# Altium integrated library TI Data Converters Analog to Digital Converter.IntLib: 2198 symbols (part 81 of 164)
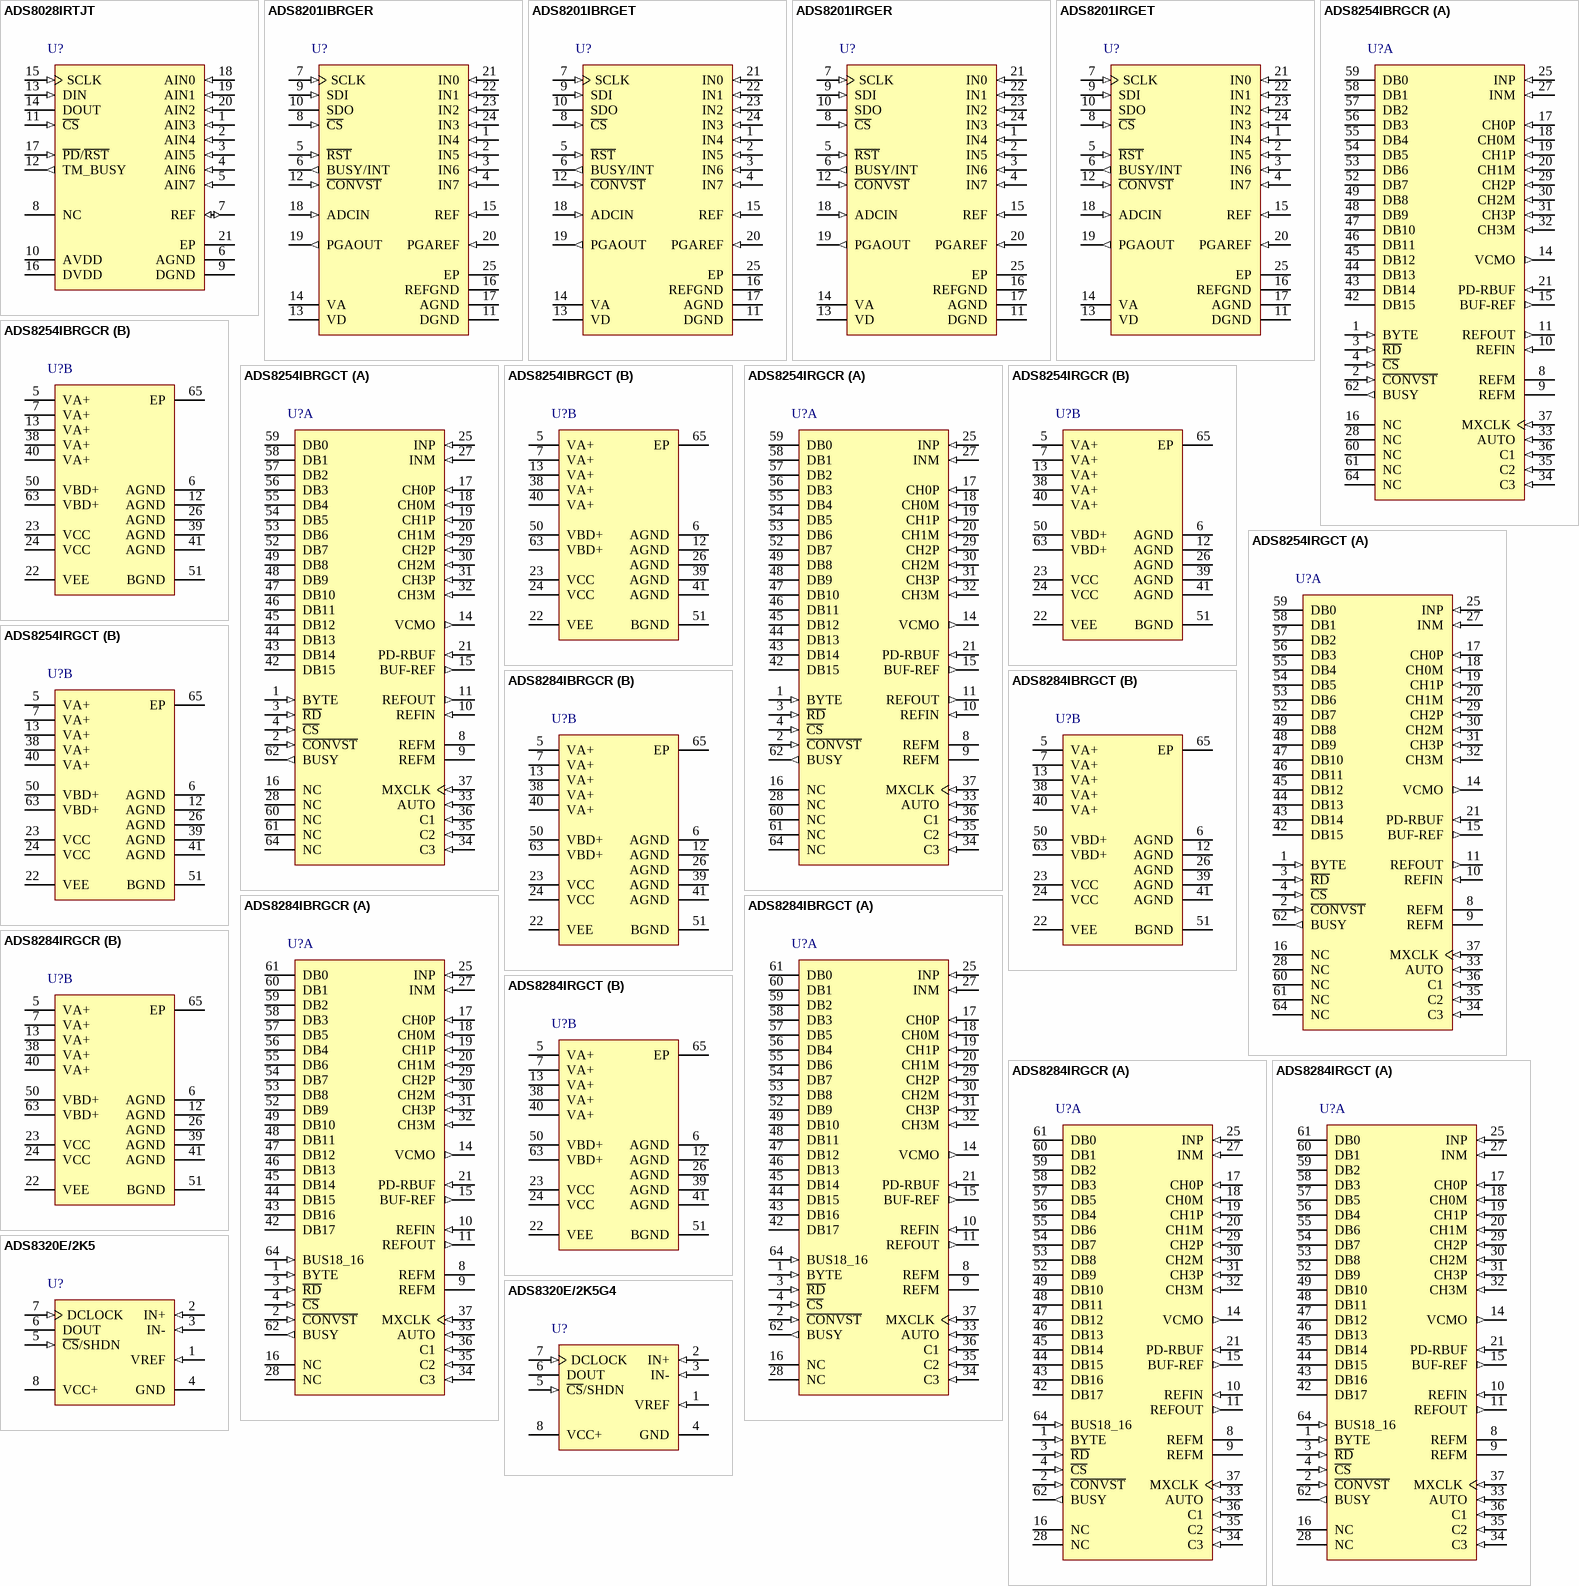
[diagram p206: symbols ADS8028IRTJT to ADS8320E/2K5G4]

## ADS8284IRGCT
designator U?
18-Bit, 1 MSPS, 4 Channel, Pseudo Bipolar, Differential ADC with Onboard ADC Driver OPA, -40 to 85 degC, 64-pin QFN (RGC64), Green (RoHS & no Sb/Br); Manufacturer: Texas Instruments; PartNumber: ADS8284IRGCT; # Input Channels: 4; Analog Voltage AV/DD(Max)(V): 5.25; Analog Voltage AV/DD(Min)(V): 4.75; Architecture: SAR; Digital Supply(Min)(V): 2.7; INL(Max)(+/-LSB): 4.5; Interface: Parallel CMOS; Resolution(Bits): 18; Sample Rate (max)(SPS): 1M; SFDR(dB): 121; SINAD(dB): 98.3; SNR(dB): 98.4; SubFamily: Precision ADC (<=10MSPS); DatasheetVersion: SLAS628; PackageVersion: 4204106/F, 11/2011; PackageReference: RGC64-7250X7250TP; PackageDescription: 64-Pin Plastic Quad Flatpack No-Lead, Body 9 x 9 mm, Pitch 0.5 mm; Supplier 1: Digi-Key; Supplier Part Number 1: DDC112U-ND; Digital Supply(Max)(V): 5.25; Eco-Plan: Green (RoHS & no Sb/Br); Mounting Technology: Surface Mount; ComponentLink1Description: Manufacturer URL; ComponentLink1URL: http://www.ti.com/; ComponentLink2Description: Datasheet; ComponentLink2URL: http://www.ti.com/general/docs/lit/getliterature.tsp?genericPartNumber=ADS8284&fileType=pdf; ComponentLink3Description: Package Specification; ComponentLink3URL: http://www.ti.com/litv/pdf/mpqf125e
footprint TI-RGC64-7250X7250TP_V (QFN, 64-Leads, Body 9x9mm, Pitch 0.5mm, Thermal Pad 7.25x7.25mm, TI Recommended)
part A pins: 1 BYTE (in) "Byte Select Input. Used for 8-bit bus reading. Refer to ADC DATA BUS description above.", 2 ~{CONVST} (in) "Convert start. This input is active low and can act independent of the C\S\ input.", 3 ~{RD} (in) "Synchronization pulse for the parallel output.", 4 ~{CS} (in) "Chip select.", 8 REFM (power) "Reference ground.", 9 REFM (power) "Reference ground.", 10 REFIN (in) "Reference Input. Add 0.1-uF decoupling capacitor between REFIN and REFM.", 11 REFOUT (out) "Reference Output. Add 1-uF capacitor between the REFOUT pin and REFM pin when internal reference is used.", 14 VCMO (out) "This pin outputs REFIN/2 and can be used to set common-mode voltage of differential analog inputs.", 15 BUF-REF (out) "Buffered reference output. Useful to level shift bipolar signals using external resistors.", 16 NC "No connection.", 17 CH0P (in) "Non-inverting analog input for differential multiplexer channel number 0. Device performance is optimized for 50-ohm source impedance at this input.", 18 CH0M (in) "Inverting analog input for differential multiplexer channel number 0. Device performance is optimized for 50-ohm source impedance at this input.", 19 CH1P (in) "Non-inverting analog input for differential multiplexer channel number 1. Device performance is optimized for 50-ohm source impedance at this input.", 20 CH1M (in) "Inverting analog input for differential multiplexer channel number 1. Device performance is optimized for 50-ohm source impedance at this input.", 21 PD-RBUF (in) "High on this pin powers down the reference buffer (BUF-REF).", 25 INP (in) "ADC Non inverting input., connect 1-nF capacitor across INP and INM", 27 INM (in) "ADC Inverting input, connect 1-nF capacitor across INP and INM", 28 NC "No connection.", 29 CH2P (in) "Non-inverting analog input for differential multiplexer channel number 2. Device performance is optimized for 50-ohm source impedance at this input.", 30 CH2M (in) "Inverting analog input for differential multiplexer channel number 2. Device performance is optimized for 50-ohm source impedance at this input.", 31 CH3P (in) "Non-inverting analog input for differential multiplexer channel number 3. Device performance is optimized for 50 ohm source impedance at this input.", 32 CH3M (in) "Inverting analog input for differential multiplexer channel number 3. Device performance is optimized for 50-ohm source impedance at this input.", 33 AUTO (in) "High level on this pin selects auto mode for multiplexer scanning. Low level selects manual mode of multiplexer scanning", 34 C3 (in) "In auto mode (AUTO = 1) multiplexer channel selection is reset to CH0 on rising edge of MXCLK while C3 = 1. The pin is do not care in manual mode.", 35 C2 (in) "Acts as multiplexer address bit when AUTO = 0 (manual mode). In auto mode (AUTO = 1) C2 and C1 select the last multiplexer channel (channel count) in the auto scan sequence.", 36 C1 (in) "Acts as multiplexer address LSB when AUTO = 0 (manual mode). In auto mode (AUTO = 1) C2 and C1 select the last multiplexer channel (channel count) in the auto scan sequence.", 37 MXCLK (in) "Multiplexer channel is selected on rising edge of MXCLK irrespective of whether it is auto or manual mode. Device BUSY output can be connected to MXCLK so that device selects next channel at the end of every sample.", 42 DB17 (hiz), 43 DB16 (hiz), 44 DB15 (hiz), 45 DB14 (hiz), 46 DB13 (hiz), 47 DB12 (hiz), 48 DB11 (hiz), 49 DB10 (hiz), 52 DB9 (hiz), 53 DB8 (hiz), 54 DB7 (hiz), 55 DB6 (hiz), 56 DB4 (hiz), 57 DB5 (hiz), 58 DB3 (hiz), 59 DB2 (hiz), 60 DB1 (hiz), 61 DB0 (hiz), 62 BUSY (out) "Status output. This pin is held high when device is converting.", 64 BUS18_16 (in) "Bus size select input. Used for selecting 18-bit or 16-bit wide bus transfer. Refer to ADC DATA BUS description above."
part B pins: 5 VA+ (power) "Analog power supply.", 6 AGND (power) "Analog ground.", 7 VA+ (power) "Analog power supply.", 12 AGND (power) "Analog ground.", 13 VA+ (power) "Analog power supply.", 22 VEE (power) "Negative supply for OPA (OP1, OP2)", 23 VCC (power) "Positive supply for OPA (OP1, OP2, BUF-REF)", 24 VCC (power) "Positive supply for OPA (OP1, OP2, BUF-REF)", 26 AGND (power) "Analog ground.", 38 VA+ (power) "Analog power supply.", 39 AGND (power) "Analog ground.", 40 VA+ (power) "Analog power supply.", 41 AGND (power) "Analog ground.", 50 VBD+ (power) "Digital power supply for ADC bus.", 51 BGND (power) "Digital ground for ADC bus interface digital supply.", 63 VBD+ (power) "Digital power supply for ADC bus.", 65 EP

## ADS8320E/2K5
designator U?
16-Bit, High-Speed, 2.7 to 5 V Micro Power Sampling ADC, -40 to 85 degC, 8-pin SOP (DGK8), Green (RoHS & no Sb/Br); Manufacturer: Texas Instruments; PartNumber: ADS8320E/2K5; # Input Channels: 1; Analog Voltage AV/DD(Max)(V): 5.25; Analog Voltage AV/DD(Min)(V): 2.7; Architecture: SAR; INL(Max)(+/-LSB): 8; Interface: Serial SPI; Resolution(Bits): 16; Sample Rate (max)(SPS): 100k; SFDR(dB): 84; SINAD(dB): 82; SNR(dB): 90; SubFamily: Precision ADC (<=10MSPS); DatasheetVersion: SBAS108D; PackageVersion: 4073329/E, 05/2006; PackageReference: DGK8; PackageDescription: 8-Pin Thin Small Outline, Body 3 x 3 mm, Pitch 0.65 mm; Supplier 1: Digi-Key; Supplier Part Number 1: DDC112U/1K-ND; Digital Supply(Max)(V): 5.25; Digital Supply(Min)(V): 2.7; Eco-Plan: Green (RoHS & no Sb/Br); Mounting Technology: Surface Mount; Code_JEDEC: MO-187; ComponentLink1Description: Manufacturer URL; ComponentLink1URL: http://www.ti.com/; ComponentLink2Description: Datasheet; ComponentLink2URL: http://www.ti.com/general/docs/lit/getliterature.tsp?genericPartNumber=ADS8320&fileType=pdf; ComponentLink3Description: Package Specification; ComponentLink3URL: http://www.ti.com/litv/pdf/mpds028d
footprint TI-DGK8_N (SOP, 8-Leads, Body 3x3mm, Pitch 0.65mm, IPC Medium Density)
footprint TI-DGK8_L (SOP, 8-Leads, Body 3x3mm, Pitch 0.65mm, IPC High Density)
footprint TI-DGK8_M (SOP, 8-Leads, Body 3x3mm, Pitch 0.65mm, IPC Low Density)
pins: 1 VREF (in) "Reference Input.", 2 IN+ (in) "Noninverting Input.", 3 IN- (in) "Inverting Input. Connect to ground or to remote ground sense point.", 4 GND (power) "Ground.", 5 ~{CS}/SHDN (in) "Chip Select when LOW, Shutdown Mode when HIGH.", 6 DOUT (hiz) "The serial output data word is comprised of 16 bits of data. In operation the data is valid on the falling edge of DCLOCK. The second clock pulse after the falling edge of C\S\ enables the serial output. After one null bit (See Datasheet)", 7 DCLOCK (in) "Data Clock synchronizes the serial data transfer and determines conversion speed.", 8 VCC+ (power) "Power Supply."

## ADS8320E/2K5G4
designator U?
16-Bit, High-Speed, 2.7 to 5 V Micro Power Sampling ADC, -40 to 85 degC, 8-pin SOP (DGK8), Green (RoHS & no Sb/Br); Manufacturer: Texas Instruments; PartNumber: ADS8320E/2K5G4; # Input Channels: 1; Analog Voltage AV/DD(Max)(V): 5.25; Analog Voltage AV/DD(Min)(V): 2.7; Architecture: SAR; INL(Max)(+/-LSB): 8; Interface: Serial SPI; Resolution(Bits): 16; Sample Rate (max)(SPS): 100k; SFDR(dB): 84; SINAD(dB): 82; SNR(dB): 90; SubFamily: Precision ADC (<=10MSPS); DatasheetVersion: SBAS108D; PackageVersion: 4073329/E, 05/2006; PackageReference: DGK8; PackageDescription: 8-Pin Thin Small Outline, Body 3 x 3 mm, Pitch 0.65 mm; Supplier 1: Digi-Key; Supplier Part Number 1: DDC112U/1KG4-ND; Digital Supply(Max)(V): 5.25; Digital Supply(Min)(V): 2.7; Eco-Plan: Green (RoHS & no Sb/Br); Mounting Technology: Surface Mount; Code_JEDEC: MO-187; ComponentLink1Description: Manufacturer URL; ComponentLink1URL: http://www.ti.com/; ComponentLink2Description: Datasheet; ComponentLink2URL: http://www.ti.com/general/docs/lit/getliterature.tsp?genericPartNumber=ADS8320&fileType=pdf; ComponentLink3Description: Package Specification; ComponentLink3URL: http://www.ti.com/litv/pdf/mpds028d
footprint TI-DGK8_N (SOP, 8-Leads, Body 3x3mm, Pitch 0.65mm, IPC Medium Density)
footprint TI-DGK8_L (SOP, 8-Leads, Body 3x3mm, Pitch 0.65mm, IPC High Density)
footprint TI-DGK8_M (SOP, 8-Leads, Body 3x3mm, Pitch 0.65mm, IPC Low Density)
pins: 1 VREF (in) "Reference Input.", 2 IN+ (in) "Noninverting Input.", 3 IN- (in) "Inverting Input. Connect to ground or to remote ground sense point.", 4 GND (power) "Ground.", 5 ~{CS}/SHDN (in) "Chip Select when LOW, Shutdown Mode when HIGH.", 6 DOUT (hiz) "The serial output data word is comprised of 16 bits of data. In operation the data is valid on the falling edge of DCLOCK. The second clock pulse after the falling edge of C\S\ enables the serial output. After one null bit (See Datasheet)", 7 DCLOCK (in) "Data Clock synchronizes the serial data transfer and determines conversion speed.", 8 VCC+ (power) "Power Supply."

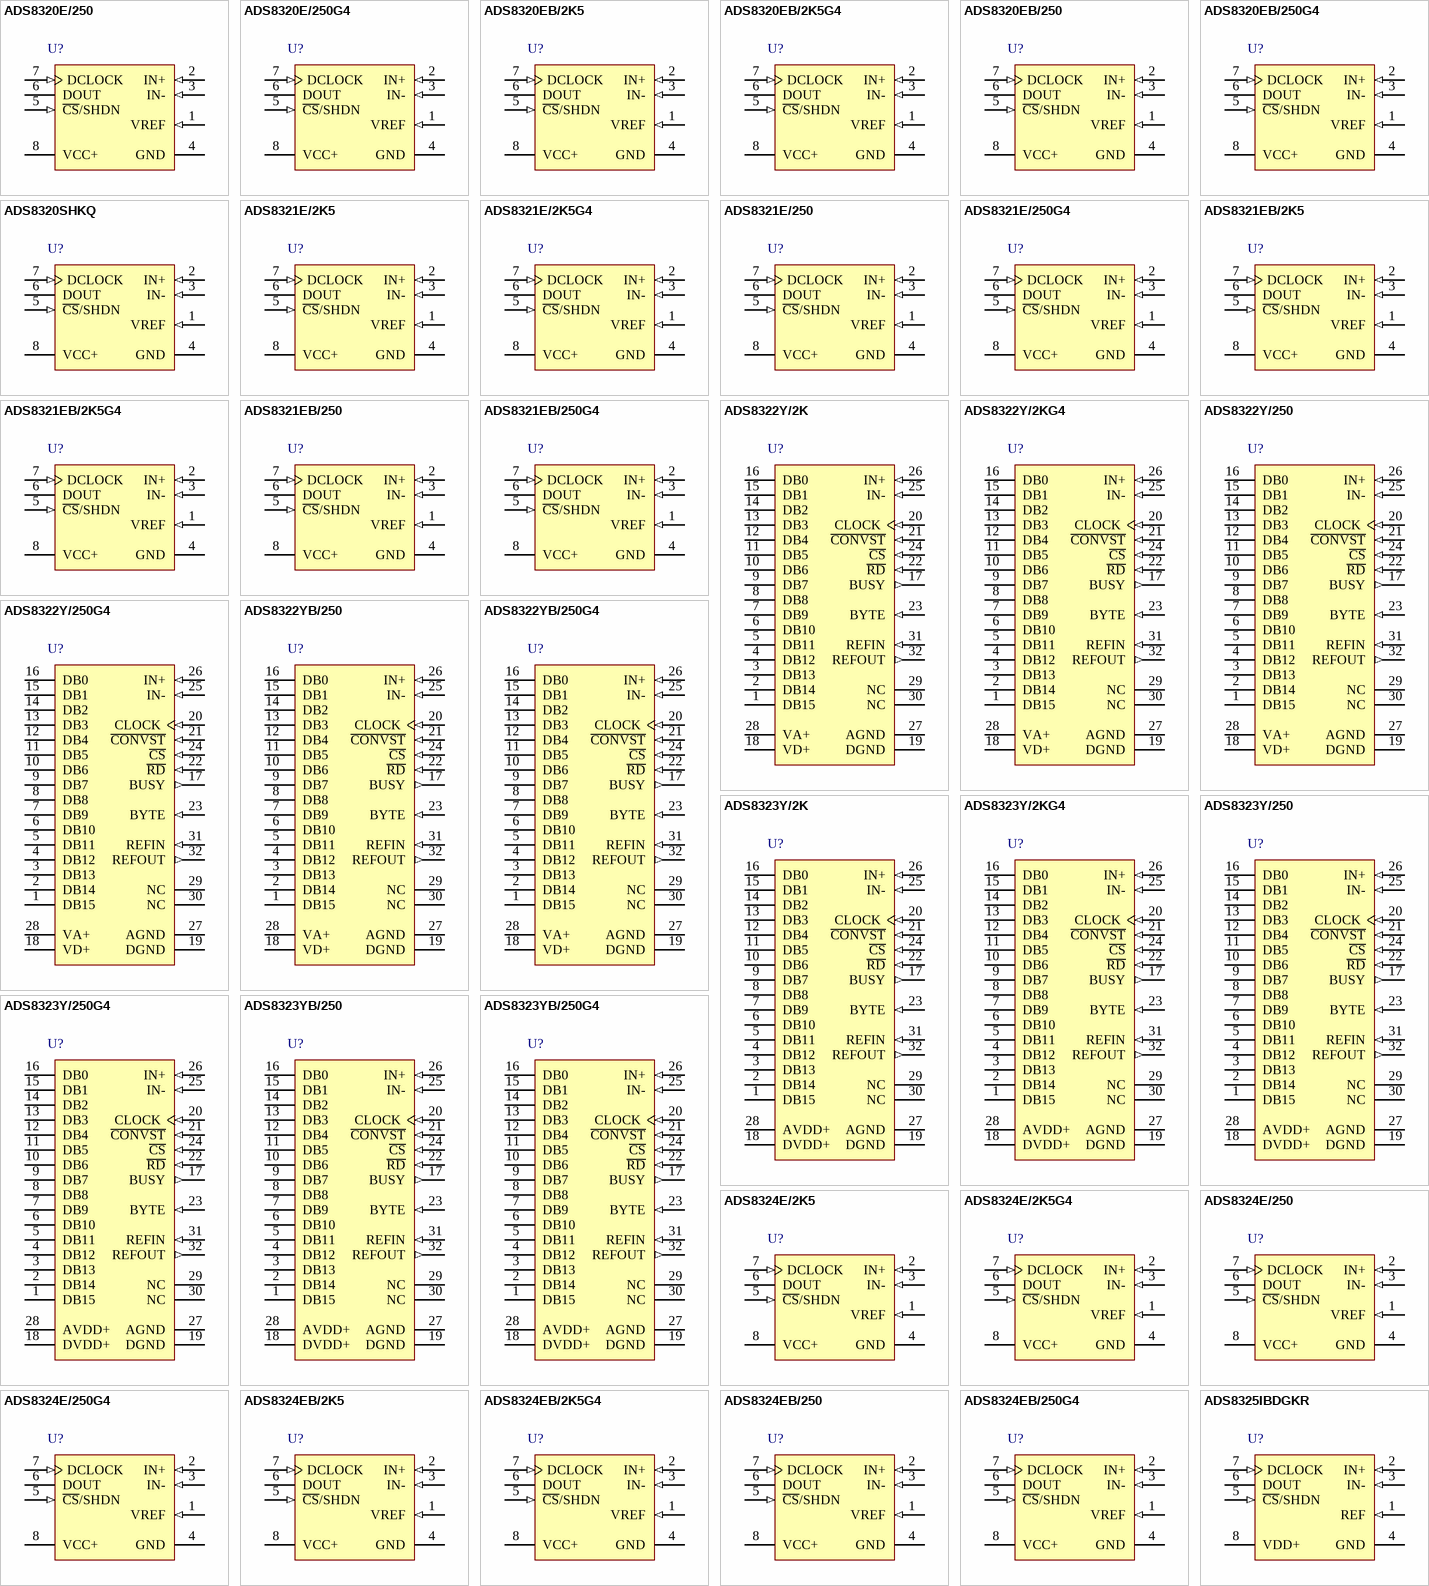
[diagram p73: symbols ADS8320E/250 to ADS8325IBDGKR]

## ADS8320E/250
designator U?
16-Bit, High-Speed, 2.7 to 5 V Micro Power Sampling ADC, -40 to 85 degC, 8-pin SOP (DGK8), Green (RoHS & no Sb/Br); Manufacturer: Texas Instruments; PartNumber: ADS8320E/250; # Input Channels: 1; Analog Voltage AV/DD(Max)(V): 5.25; Analog Voltage AV/DD(Min)(V): 2.7; Architecture: SAR; INL(Max)(+/-LSB): 8; Interface: Serial SPI; Resolution(Bits): 16; Sample Rate (max)(SPS): 100k; SFDR(dB): 84; SINAD(dB): 82; SNR(dB): 90; SubFamily: Precision ADC (<=10MSPS); DatasheetVersion: SBAS108D; PackageVersion: 4073329/E, 05/2006; PackageReference: DGK8; PackageDescription: 8-Pin Thin Small Outline, Body 3 x 3 mm, Pitch 0.65 mm; Supplier 1: Digi-Key; Supplier Part Number 1: DDC112UG4-ND; Digital Supply(Max)(V): 5.25; Digital Supply(Min)(V): 2.7; Eco-Plan: Green (RoHS & no Sb/Br); Mounting Technology: Surface Mount; Code_JEDEC: MO-187; ComponentLink1Description: Manufacturer URL; ComponentLink1URL: http://www.ti.com/; ComponentLink2Description: Datasheet; ComponentLink2URL: http://www.ti.com/general/docs/lit/getliterature.tsp?genericPartNumber=ADS8320&fileType=pdf; ComponentLink3Description: Package Specification; ComponentLink3URL: http://www.ti.com/litv/pdf/mpds028d
footprint TI-DGK8_N (SOP, 8-Leads, Body 3x3mm, Pitch 0.65mm, IPC Medium Density)
footprint TI-DGK8_L (SOP, 8-Leads, Body 3x3mm, Pitch 0.65mm, IPC High Density)
footprint TI-DGK8_M (SOP, 8-Leads, Body 3x3mm, Pitch 0.65mm, IPC Low Density)
pins: 1 VREF (in) "Reference Input.", 2 IN+ (in) "Noninverting Input.", 3 IN- (in) "Inverting Input. Connect to ground or to remote ground sense point.", 4 GND (power) "Ground.", 5 ~{CS}/SHDN (in) "Chip Select when LOW, Shutdown Mode when HIGH.", 6 DOUT (hiz) "The serial output data word is comprised of 16 bits of data. In operation the data is valid on the falling edge of DCLOCK. The second clock pulse after the falling edge of C\S\ enables the serial output. After one null bit (See Datasheet)", 7 DCLOCK (in) "Data Clock synchronizes the serial data transfer and determines conversion speed.", 8 VCC+ (power) "Power Supply."

## ADS8320E/250G4
designator U?
16-Bit, High-Speed, 2.7 to 5 V Micro Power Sampling ADC, -40 to 85 degC, 8-pin SOP (DGK8), Green (RoHS & no Sb/Br); Manufacturer: Texas Instruments; PartNumber: ADS8320E/250G4; # Input Channels: 1; Analog Voltage AV/DD(Max)(V): 5.25; Analog Voltage AV/DD(Min)(V): 2.7; Architecture: SAR; INL(Max)(+/-LSB): 8; Interface: Serial SPI; Resolution(Bits): 16; Sample Rate (max)(SPS): 100k; SFDR(dB): 84; SINAD(dB): 82; SNR(dB): 90; SubFamily: Precision ADC (<=10MSPS); DatasheetVersion: SBAS108D; PackageVersion: 4073329/E, 05/2006; PackageReference: DGK8; PackageDescription: 8-Pin Thin Small Outline, Body 3 x 3 mm, Pitch 0.65 mm; Supplier 1: Digi-Key; Supplier Part Number 1: DDC112UK-ND; Digital Supply(Max)(V): 5.25; Digital Supply(Min)(V): 2.7; Eco-Plan: Green (RoHS & no Sb/Br); Mounting Technology: Surface Mount; Code_JEDEC: MO-187; ComponentLink1Description: Manufacturer URL; ComponentLink1URL: http://www.ti.com/; ComponentLink2Description: Datasheet; ComponentLink2URL: http://www.ti.com/general/docs/lit/getliterature.tsp?genericPartNumber=ADS8320&fileType=pdf; ComponentLink3Description: Package Specification; ComponentLink3URL: http://www.ti.com/litv/pdf/mpds028d
footprint TI-DGK8_N (SOP, 8-Leads, Body 3x3mm, Pitch 0.65mm, IPC Medium Density)
footprint TI-DGK8_L (SOP, 8-Leads, Body 3x3mm, Pitch 0.65mm, IPC High Density)
footprint TI-DGK8_M (SOP, 8-Leads, Body 3x3mm, Pitch 0.65mm, IPC Low Density)
pins: 1 VREF (in) "Reference Input.", 2 IN+ (in) "Noninverting Input.", 3 IN- (in) "Inverting Input. Connect to ground or to remote ground sense point.", 4 GND (power) "Ground.", 5 ~{CS}/SHDN (in) "Chip Select when LOW, Shutdown Mode when HIGH.", 6 DOUT (hiz) "The serial output data word is comprised of 16 bits of data. In operation the data is valid on the falling edge of DCLOCK. The second clock pulse after the falling edge of C\S\ enables the serial output. After one null bit (See Datasheet)", 7 DCLOCK (in) "Data Clock synchronizes the serial data transfer and determines conversion speed.", 8 VCC+ (power) "Power Supply."

## ADS8320EB/2K5
designator U?
16-Bit, High-Speed, 2.7 to 5 V Micro Power Sampling ADC, -40 to 85 degC, 8-pin SOP (DGK8), Green (RoHS & no Sb/Br); Manufacturer: Texas Instruments; PartNumber: ADS8320EB/2K5; # Input Channels: 1; Analog Voltage AV/DD(Max)(V): 5.25; Analog Voltage AV/DD(Min)(V): 2.7; Architecture: SAR; INL(Max)(+/-LSB): 8; Interface: Serial SPI; Resolution(Bits): 16; Sample Rate (max)(SPS): 100k; SFDR(dB): 86; SINAD(dB): 84; SNR(dB): 92; SubFamily: Precision ADC (<=10MSPS); DatasheetVersion: SBAS108D; PackageVersion: 4073329/E, 05/2006; PackageReference: DGK8; PackageDescription: 8-Pin Thin Small Outline, Body 3 x 3 mm, Pitch 0.65 mm; Supplier 1: Digi-Key; Supplier Part Number 1: DDC112UKG4-ND; Digital Supply(Max)(V): 5.25; Digital Supply(Min)(V): 2.7; Eco-Plan: Green (RoHS & no Sb/Br); Mounting Technology: Surface Mount; Code_JEDEC: MO-187; ComponentLink1Description: Manufacturer URL; ComponentLink1URL: http://www.ti.com/; ComponentLink2Description: Datasheet; ComponentLink2URL: http://www.ti.com/general/docs/lit/getliterature.tsp?genericPartNumber=ADS8320&fileType=pdf; ComponentLink3Description: Package Specification; ComponentLink3URL: http://www.ti.com/litv/pdf/mpds028d
footprint TI-DGK8_N (SOP, 8-Leads, Body 3x3mm, Pitch 0.65mm, IPC Medium Density)
footprint TI-DGK8_L (SOP, 8-Leads, Body 3x3mm, Pitch 0.65mm, IPC High Density)
footprint TI-DGK8_M (SOP, 8-Leads, Body 3x3mm, Pitch 0.65mm, IPC Low Density)
pins: 1 VREF (in) "Reference Input.", 2 IN+ (in) "Noninverting Input.", 3 IN- (in) "Inverting Input. Connect to ground or to remote ground sense point.", 4 GND (power) "Ground.", 5 ~{CS}/SHDN (in) "Chip Select when LOW, Shutdown Mode when HIGH.", 6 DOUT (hiz) "The serial output data word is comprised of 16 bits of data. In operation the data is valid on the falling edge of DCLOCK. The second clock pulse after the falling edge of C\S\ enables the serial output. After one null bit (See Datasheet)", 7 DCLOCK (in) "Data Clock synchronizes the serial data transfer and determines conversion speed.", 8 VCC+ (power) "Power Supply."

## ADS8320EB/2K5G4
designator U?
16-Bit, High-Speed, 2.7 to 5 V Micro Power Sampling ADC, -40 to 85 degC, 8-pin SOP (DGK8), Green (RoHS & no Sb/Br); Manufacturer: Texas Instruments; PartNumber: ADS8320EB/2K5G4; # Input Channels: 1; Analog Voltage AV/DD(Max)(V): 5.25; Analog Voltage AV/DD(Min)(V): 2.7; Architecture: SAR; INL(Max)(+/-LSB): 8; Interface: Serial SPI; Resolution(Bits): 16; Sample Rate (max)(SPS): 100k; SFDR(dB): 86; SINAD(dB): 84; SNR(dB): 92; SubFamily: Precision ADC (<=10MSPS); DatasheetVersion: SBAS108D; PackageVersion: 4073329/E, 05/2006; PackageReference: DGK8; PackageDescription: 8-Pin Thin Small Outline, Body 3 x 3 mm, Pitch 0.65 mm; Supplier 1: Digi-Key; Supplier Part Number 1: 296-16747-2-ND; Digital Supply(Max)(V): 5.25; Digital Supply(Min)(V): 2.7; Eco-Plan: Green (RoHS & no Sb/Br); Mounting Technology: Surface Mount; Code_JEDEC: MO-187; ComponentLink1Description: Manufacturer URL; ComponentLink1URL: http://www.ti.com/; ComponentLink2Description: Datasheet; ComponentLink2URL: http://www.ti.com/general/docs/lit/getliterature.tsp?genericPartNumber=ADS8320&fileType=pdf; ComponentLink3Description: Package Specification; ComponentLink3URL: http://www.ti.com/litv/pdf/mpds028d
footprint TI-DGK8_N (SOP, 8-Leads, Body 3x3mm, Pitch 0.65mm, IPC Medium Density)
footprint TI-DGK8_L (SOP, 8-Leads, Body 3x3mm, Pitch 0.65mm, IPC High Density)
footprint TI-DGK8_M (SOP, 8-Leads, Body 3x3mm, Pitch 0.65mm, IPC Low Density)
pins: 1 VREF (in) "Reference Input.", 2 IN+ (in) "Noninverting Input.", 3 IN- (in) "Inverting Input. Connect to ground or to remote ground sense point.", 4 GND (power) "Ground.", 5 ~{CS}/SHDN (in) "Chip Select when LOW, Shutdown Mode when HIGH.", 6 DOUT (hiz) "The serial output data word is comprised of 16 bits of data. In operation the data is valid on the falling edge of DCLOCK. The second clock pulse after the falling edge of C\S\ enables the serial output. After one null bit (See Datasheet)", 7 DCLOCK (in) "Data Clock synchronizes the serial data transfer and determines conversion speed.", 8 VCC+ (power) "Power Supply."

## ADS8320EB/250
designator U?
16-Bit, High-Speed, 2.7 to 5 V Micro Power Sampling ADC, -40 to 85 degC, 8-pin SOP (DGK8), Green (RoHS & no Sb/Br); Manufacturer: Texas Instruments; PartNumber: ADS8320EB/250; # Input Channels: 1; Analog Voltage AV/DD(Max)(V): 5.25; Analog Voltage AV/DD(Min)(V): 2.7; Architecture: SAR; INL(Max)(+/-LSB): 8; Interface: Serial SPI; Resolution(Bits): 16; Sample Rate (max)(SPS): 100k; SFDR(dB): 86; SINAD(dB): 84; SNR(dB): 92; SubFamily: Precision ADC (<=10MSPS); DatasheetVersion: SBAS108D; PackageVersion: 4073329/E, 05/2006; PackageReference: DGK8; PackageDescription: 8-Pin Thin Small Outline, Body 3 x 3 mm, Pitch 0.65 mm; Supplier 1: Digi-Key; Supplier Part Number 1: DDC112Y/250G4-ND; Digital Supply(Max)(V): 5.25; Digital Supply(Min)(V): 2.7; Eco-Plan: Green (RoHS & no Sb/Br); Mounting Technology: Surface Mount; Code_JEDEC: MO-187; ComponentLink1Description: Manufacturer URL; ComponentLink1URL: http://www.ti.com/; ComponentLink2Description: Datasheet; ComponentLink2URL: http://www.ti.com/general/docs/lit/getliterature.tsp?genericPartNumber=ADS8320&fileType=pdf; ComponentLink3Description: Package Specification; ComponentLink3URL: http://www.ti.com/litv/pdf/mpds028d
footprint TI-DGK8_N (SOP, 8-Leads, Body 3x3mm, Pitch 0.65mm, IPC Medium Density)
footprint TI-DGK8_L (SOP, 8-Leads, Body 3x3mm, Pitch 0.65mm, IPC High Density)
footprint TI-DGK8_M (SOP, 8-Leads, Body 3x3mm, Pitch 0.65mm, IPC Low Density)
pins: 1 VREF (in) "Reference Input.", 2 IN+ (in) "Noninverting Input.", 3 IN- (in) "Inverting Input. Connect to ground or to remote ground sense point.", 4 GND (power) "Ground.", 5 ~{CS}/SHDN (in) "Chip Select when LOW, Shutdown Mode when HIGH.", 6 DOUT (hiz) "The serial output data word is comprised of 16 bits of data. In operation the data is valid on the falling edge of DCLOCK. The second clock pulse after the falling edge of C\S\ enables the serial output. After one null bit (See Datasheet)", 7 DCLOCK (in) "Data Clock synchronizes the serial data transfer and determines conversion speed.", 8 VCC+ (power) "Power Supply."

## ADS8320EB/250G4
designator U?
16-Bit, High-Speed, 2.7 to 5 V Micro Power Sampling ADC, -40 to 85 degC, 8-pin SOP (DGK8), Green (RoHS & no Sb/Br); Manufacturer: Texas Instruments; PartNumber: ADS8320EB/250G4; # Input Channels: 1; Analog Voltage AV/DD(Max)(V): 5.25; Analog Voltage AV/DD(Min)(V): 2.7; Architecture: SAR; INL(Max)(+/-LSB): 8; Interface: Serial SPI; Resolution(Bits): 16; Sample Rate (max)(SPS): 100k; SFDR(dB): 86; SINAD(dB): 84; SNR(dB): 92; SubFamily: Precision ADC (<=10MSPS); DatasheetVersion: SBAS108D; PackageVersion: 4073329/E, 05/2006; PackageReference: DGK8; PackageDescription: 8-Pin Thin Small Outline, Body 3 x 3 mm, Pitch 0.65 mm; Supplier 1: Digi-Key; Supplier Part Number 1: DDC112Y/2K-ND; Digital Supply(Max)(V): 5.25; Digital Supply(Min)(V): 2.7; Eco-Plan: Green (RoHS & no Sb/Br); Mounting Technology: Surface Mount; Code_JEDEC: MO-187; ComponentLink1Description: Manufacturer URL; ComponentLink1URL: http://www.ti.com/; ComponentLink2Description: Datasheet; ComponentLink2URL: http://www.ti.com/general/docs/lit/getliterature.tsp?genericPartNumber=ADS8320&fileType=pdf; ComponentLink3Description: Package Specification; ComponentLink3URL: http://www.ti.com/litv/pdf/mpds028d
footprint TI-DGK8_N (SOP, 8-Leads, Body 3x3mm, Pitch 0.65mm, IPC Medium Density)
footprint TI-DGK8_L (SOP, 8-Leads, Body 3x3mm, Pitch 0.65mm, IPC High Density)
footprint TI-DGK8_M (SOP, 8-Leads, Body 3x3mm, Pitch 0.65mm, IPC Low Density)
pins: 1 VREF (in) "Reference Input.", 2 IN+ (in) "Noninverting Input.", 3 IN- (in) "Inverting Input. Connect to ground or to remote ground sense point.", 4 GND (power) "Ground.", 5 ~{CS}/SHDN (in) "Chip Select when LOW, Shutdown Mode when HIGH.", 6 DOUT (hiz) "The serial output data word is comprised of 16 bits of data. In operation the data is valid on the falling edge of DCLOCK. The second clock pulse after the falling edge of C\S\ enables the serial output. After one null bit (See Datasheet)", 7 DCLOCK (in) "Data Clock synchronizes the serial data transfer and determines conversion speed.", 8 VCC+ (power) "Power Supply."

## ADS8320SHKQ
designator U?
High Temperature 16-Bit, High-Speed, 2.7 to 5 V Micro Power Sampling ADC, -55 to 125 degC, 8-pin CFP (HKQ8); Manufacturer: Texas Instruments; PartNumber: ADS8320SHKQ; # Input Channels: 1; Analog Voltage AV/DD(Max)(V): 5.25; Analog Voltage AV/DD(Min)(V): 2.7; Architecture: SAR; Interface: Serial SPI; Resolution(Bits): 16; Sample Rate (max)(SPS): 100k; SFDR(dB): 83; SINAD(dB): 81; SNR(dB): 88; SubFamily: Precision ADC (<=10MSPS); DatasheetVersion: SBAS521B; PackageVersion: 4212003/B, 05/2012; PackageReference: HKQ8; PackageDescription: 8-Pin Ceramic, Metal Flat Pack, Body 6.9 x 5.65 mm, Pitch 1.27 mm; Supplier 1: Digi-Key; Supplier Part Number 1: DDC112Y/2KG4-ND; Digital Supply(Max)(V): 5.25; Digital Supply(Min)(V): 2.7; Mounting Technology: Surface Mount; ComponentLink1Description: Manufacturer URL; ComponentLink1URL: http://www.ti.com/; ComponentLink2Description: Datasheet; ComponentLink2URL: http://www.ti.com/general/docs/lit/getliterature.tsp?genericPartNumber=ADS8320-HT&fileType=pdf; ComponentLink3Description: Package Specification; ComponentLink3URL: http://www.ti.com/litv/pdf/mcdf011a
footprint TI-HKQ8_N (CFP, 8-Leads, Body 6.9x5.65mm, Pitch 1.27mm, IPC Medium Density)
footprint TI-HKQ8_L (CFP, 8-Leads, Body 6.9x5.65mm, Pitch 1.27mm, IPC High Density)
footprint TI-HKQ8_M (CFP, 8-Leads, Body 6.9x5.65mm, Pitch 1.27mm, IPC Low Density)
pins: 1 VREF (in) "Reference input", 2 IN+ (in) "Noninverting input", 3 IN- (in) "Inverting input. Connect to ground or to remote ground sense point.", 4 GND (power) "Ground", 5 ~{CS}/SHDN (in) "Chip select when LOW, shutdown mode when HIGH.", 6 DOUT (hiz) "The serial output data word is comprised of 16 bits of data. In operation the data is valid on the falling edge of DCLOCK. The second clock pulse after the falling edge of CS enables the serial output. After one null bit the (See Datasheet)", 7 DCLOCK (in) "Data clock synchronizes the serial data transfer and determines conversion speed.", 8 VCC+ (power) "Power supply"

## ADS8321E/2K5
designator U?
16-Bit, High Speed, MicroPower Sampling ADC, -40 to 85 degC, 8-pin SOP (DGK8), Green (RoHS & no Sb/Br); Manufacturer: Texas Instruments; PartNumber: ADS8321E/2K5; # Input Channels: 1; Analog Voltage AV/DD(Max)(V): 5.25; Analog Voltage AV/DD(Min)(V): 4.75; Architecture: SAR; INL(Max)(+/-LSB): 8; Interface: Serial SPI; Resolution(Bits): 16; Sample Rate (max)(SPS): 100k; SFDR(dB): 84; SINAD(dB): 82; SNR(dB): 85; SubFamily: Precision ADC (<=10MSPS); DatasheetVersion: SBAS123B; PackageVersion: 4073329/E, 05/2006; PackageReference: DGK8; PackageDescription: 8-Pin Thin Small Outline, Body 3 x 3 mm, Pitch 0.65 mm; Supplier 1: Digi-Key; Supplier Part Number 1: DDC112YK/250-ND; Digital Supply(Max)(V): 5.25; Digital Supply(Min)(V): 4.75; Eco-Plan: Green (RoHS & no Sb/Br); Mounting Technology: Surface Mount; Code_JEDEC: MO-187; ComponentLink1Description: Manufacturer URL; ComponentLink1URL: http://www.ti.com/; ComponentLink2Description: Datasheet; ComponentLink2URL: http://www.ti.com/general/docs/lit/getliterature.tsp?genericPartNumber=ADS8321&fileType=pdf; ComponentLink3Description: Package Specification; ComponentLink3URL: http://www.ti.com/litv/pdf/mpds028d
footprint TI-DGK8_N (SOP, 8-Leads, Body 3x3mm, Pitch 0.65mm, IPC Medium Density)
footprint TI-DGK8_L (SOP, 8-Leads, Body 3x3mm, Pitch 0.65mm, IPC High Density)
footprint TI-DGK8_M (SOP, 8-Leads, Body 3x3mm, Pitch 0.65mm, IPC Low Density)
pins: 1 VREF (in) "Reference Input", 2 IN+ (in) "Non Inverting Input", 3 IN- (in) "Inverting Input", 4 GND (power) "Ground", 5 ~{CS}/SHDN (in) "Chip Select when LOW, Shutdown Mode when HIGH.", 6 DOUT (hiz) "The serial output data word is comprised of 16 bits of data. In operation the data is valid on the falling edge of DCLOCK. The second clock pulse after the falling edge of C\S\ enables the serial output. After one null bit, (See Datasheet)", 7 DCLOCK (in) "Data Clock synchronizes the serial data transfer and determines conversion speed.", 8 VCC+ (power) "Power Supply."

## ADS8321E/2K5G4
designator U?
16-Bit, High Speed, MicroPower Sampling ADC, -40 to 85 degC, 8-pin SOP (DGK8), Green (RoHS & no Sb/Br); Manufacturer: Texas Instruments; PartNumber: ADS8321E/2K5G4; # Input Channels: 1; Analog Voltage AV/DD(Max)(V): 5.25; Analog Voltage AV/DD(Min)(V): 4.75; Architecture: SAR; INL(Max)(+/-LSB): 8; Interface: Serial SPI; Resolution(Bits): 16; Sample Rate (max)(SPS): 100k; SFDR(dB): 84; SINAD(dB): 82; SNR(dB): 85; SubFamily: Precision ADC (<=10MSPS); DatasheetVersion: SBAS123B; PackageVersion: 4073329/E, 05/2006; PackageReference: DGK8; PackageDescription: 8-Pin Thin Small Outline, Body 3 x 3 mm, Pitch 0.65 mm; Supplier 1: Digi-Key; Supplier Part Number 1: DDC112YK/250G4-ND; Digital Supply(Max)(V): 5.25; Digital Supply(Min)(V): 4.75; Eco-Plan: Green (RoHS & no Sb/Br); Mounting Technology: Surface Mount; Code_JEDEC: MO-187; ComponentLink1Description: Manufacturer URL; ComponentLink1URL: http://www.ti.com/; ComponentLink2Description: Datasheet; ComponentLink2URL: http://www.ti.com/general/docs/lit/getliterature.tsp?genericPartNumber=ADS8321&fileType=pdf; ComponentLink3Description: Package Specification; ComponentLink3URL: http://www.ti.com/litv/pdf/mpds028d
footprint TI-DGK8_N (SOP, 8-Leads, Body 3x3mm, Pitch 0.65mm, IPC Medium Density)
footprint TI-DGK8_L (SOP, 8-Leads, Body 3x3mm, Pitch 0.65mm, IPC High Density)
footprint TI-DGK8_M (SOP, 8-Leads, Body 3x3mm, Pitch 0.65mm, IPC Low Density)
pins: 1 VREF (in) "Reference Input", 2 IN+ (in) "Non Inverting Input", 3 IN- (in) "Inverting Input", 4 GND (power) "Ground", 5 ~{CS}/SHDN (in) "Chip Select when LOW, Shutdown Mode when HIGH.", 6 DOUT (hiz) "The serial output data word is comprised of 16 bits of data. In operation the data is valid on the falling edge of DCLOCK. The second clock pulse after the falling edge of C\S\ enables the serial output. After one null bit, (See Datasheet)", 7 DCLOCK (in) "Data Clock synchronizes the serial data transfer and determines conversion speed.", 8 VCC+ (power) "Power Supply."

## ADS8321E/250
designator U?
16-Bit, High Speed, MicroPower Sampling ADC, -40 to 85 degC, 8-pin SOP (DGK8), Green (RoHS & no Sb/Br); Manufacturer: Texas Instruments; PartNumber: ADS8321E/250; # Input Channels: 1; Analog Voltage AV/DD(Max)(V): 5.25; Analog Voltage AV/DD(Min)(V): 4.75; Architecture: SAR; INL(Max)(+/-LSB): 8; Interface: Serial SPI; Resolution(Bits): 16; Sample Rate (max)(SPS): 100k; SFDR(dB): 84; SINAD(dB): 82; SNR(dB): 85; SubFamily: Precision ADC (<=10MSPS); DatasheetVersion: SBAS123B; PackageVersion: 4073329/E, 05/2006; PackageReference: DGK8; PackageDescription: 8-Pin Thin Small Outline, Body 3 x 3 mm, Pitch 0.65 mm; Supplier 1: Digi-Key; Supplier Part Number 1: ADS7841E-ND; Digital Supply(Max)(V): 5.25; Digital Supply(Min)(V): 4.75; Eco-Plan: Green (RoHS & no Sb/Br); Mounting Technology: Surface Mount; Code_JEDEC: MO-187; ComponentLink1Description: Manufacturer URL; ComponentLink1URL: http://www.ti.com/; ComponentLink2Description: Datasheet; ComponentLink2URL: http://www.ti.com/general/docs/lit/getliterature.tsp?genericPartNumber=ADS8321&fileType=pdf; ComponentLink3Description: Package Specification; ComponentLink3URL: http://www.ti.com/litv/pdf/mpds028d
footprint TI-DGK8_N (SOP, 8-Leads, Body 3x3mm, Pitch 0.65mm, IPC Medium Density)
footprint TI-DGK8_L (SOP, 8-Leads, Body 3x3mm, Pitch 0.65mm, IPC High Density)
footprint TI-DGK8_M (SOP, 8-Leads, Body 3x3mm, Pitch 0.65mm, IPC Low Density)
pins: 1 VREF (in) "Reference Input", 2 IN+ (in) "Non Inverting Input", 3 IN- (in) "Inverting Input", 4 GND (power) "Ground", 5 ~{CS}/SHDN (in) "Chip Select when LOW, Shutdown Mode when HIGH.", 6 DOUT (hiz) "The serial output data word is comprised of 16 bits of data. In operation the data is valid on the falling edge of DCLOCK. The second clock pulse after the falling edge of C\S\ enables the serial output. After one null bit, (See Datasheet)", 7 DCLOCK (in) "Data Clock synchronizes the serial data transfer and determines conversion speed.", 8 VCC+ (power) "Power Supply."

## ADS8321E/250G4
designator U?
16-Bit, High Speed, MicroPower Sampling ADC, -40 to 85 degC, 8-pin SOP (DGK8), Green (RoHS & no Sb/Br); Manufacturer: Texas Instruments; PartNumber: ADS8321E/250G4; # Input Channels: 1; Analog Voltage AV/DD(Max)(V): 5.25; Analog Voltage AV/DD(Min)(V): 4.75; Architecture: SAR; INL(Max)(+/-LSB): 8; Interface: Serial SPI; Resolution(Bits): 16; Sample Rate (max)(SPS): 100k; SFDR(dB): 84; SINAD(dB): 82; SNR(dB): 85; SubFamily: Precision ADC (<=10MSPS); DatasheetVersion: SBAS123B; PackageVersion: 4073329/E, 05/2006; PackageReference: DGK8; PackageDescription: 8-Pin Thin Small Outline, Body 3 x 3 mm, Pitch 0.65 mm; Supplier 1: Digi-Key; Supplier Part Number 1: 296-25900-2-ND; Digital Supply(Max)(V): 5.25; Digital Supply(Min)(V): 4.75; Eco-Plan: Green (RoHS & no Sb/Br); Mounting Technology: Surface Mount; Code_JEDEC: MO-187; ComponentLink1Description: Manufacturer URL; ComponentLink1URL: http://www.ti.com/; ComponentLink2Description: Datasheet; ComponentLink2URL: http://www.ti.com/general/docs/lit/getliterature.tsp?genericPartNumber=ADS8321&fileType=pdf; ComponentLink3Description: Package Specification; ComponentLink3URL: http://www.ti.com/litv/pdf/mpds028d
footprint TI-DGK8_N (SOP, 8-Leads, Body 3x3mm, Pitch 0.65mm, IPC Medium Density)
footprint TI-DGK8_L (SOP, 8-Leads, Body 3x3mm, Pitch 0.65mm, IPC High Density)
footprint TI-DGK8_M (SOP, 8-Leads, Body 3x3mm, Pitch 0.65mm, IPC Low Density)
pins: 1 VREF (in) "Reference Input", 2 IN+ (in) "Non Inverting Input", 3 IN- (in) "Inverting Input", 4 GND (power) "Ground", 5 ~{CS}/SHDN (in) "Chip Select when LOW, Shutdown Mode when HIGH.", 6 DOUT (hiz) "The serial output data word is comprised of 16 bits of data. In operation the data is valid on the falling edge of DCLOCK. The second clock pulse after the falling edge of C\S\ enables the serial output. After one null bit, (See Datasheet)", 7 DCLOCK (in) "Data Clock synchronizes the serial data transfer and determines conversion speed.", 8 VCC+ (power) "Power Supply."

## ADS8321EB/2K5
designator U?
16-Bit, High Speed, MicroPower Sampling ADC, -40 to 85 degC, 8-pin SOP (DGK8), Green (RoHS & no Sb/Br); Manufacturer: Texas Instruments; PartNumber: ADS8321EB/2K5; # Input Channels: 1; Analog Voltage AV/DD(Max)(V): 5.25; Analog Voltage AV/DD(Min)(V): 4.75; Architecture: SAR; INL(Max)(+/-LSB): 8; Interface: Serial SPI; Resolution(Bits): 16; Sample Rate (max)(SPS): 100k; SFDR(dB): 86; SINAD(dB): 84; SNR(dB): 87; SubFamily: Precision ADC (<=10MSPS); DatasheetVersion: SBAS123B; PackageVersion: 4073329/E, 05/2006; PackageReference: DGK8; PackageDescription: 8-Pin Thin Small Outline, Body 3 x 3 mm, Pitch 0.65 mm; Supplier 1: Digi-Key; Supplier Part Number 1: ADS7841E/2K5G4-ND; Digital Supply(Max)(V): 5.25; Digital Supply(Min)(V): 4.75; Eco-Plan: Green (RoHS & no Sb/Br); Mounting Technology: Surface Mount; Code_JEDEC: MO-187; ComponentLink1Description: Manufacturer URL; ComponentLink1URL: http://www.ti.com/; ComponentLink2Description: Datasheet; ComponentLink2URL: http://www.ti.com/general/docs/lit/getliterature.tsp?genericPartNumber=ADS8321&fileType=pdf; ComponentLink3Description: Package Specification; ComponentLink3URL: http://www.ti.com/litv/pdf/mpds028d
footprint TI-DGK8_N (SOP, 8-Leads, Body 3x3mm, Pitch 0.65mm, IPC Medium Density)
footprint TI-DGK8_L (SOP, 8-Leads, Body 3x3mm, Pitch 0.65mm, IPC High Density)
footprint TI-DGK8_M (SOP, 8-Leads, Body 3x3mm, Pitch 0.65mm, IPC Low Density)
pins: 1 VREF (in) "Reference Input", 2 IN+ (in) "Non Inverting Input", 3 IN- (in) "Inverting Input", 4 GND (power) "Ground", 5 ~{CS}/SHDN (in) "Chip Select when LOW, Shutdown Mode when HIGH.", 6 DOUT (hiz) "The serial output data word is comprised of 16 bits of data. In operation the data is valid on the falling edge of DCLOCK. The second clock pulse after the falling edge of C\S\ enables the serial output. After one null bit, (See Datasheet)", 7 DCLOCK (in) "Data Clock synchronizes the serial data transfer and determines conversion speed.", 8 VCC+ (power) "Power Supply."

## ADS8321EB/2K5G4
designator U?
16-Bit, High Speed, MicroPower Sampling ADC, -40 to 85 degC, 8-pin SOP (DGK8), Green (RoHS & no Sb/Br); Manufacturer: Texas Instruments; PartNumber: ADS8321EB/2K5G4; # Input Channels: 1; Analog Voltage AV/DD(Max)(V): 5.25; Analog Voltage AV/DD(Min)(V): 4.75; Architecture: SAR; INL(Max)(+/-LSB): 8; Interface: Serial SPI; Resolution(Bits): 16; Sample Rate (max)(SPS): 100k; SFDR(dB): 86; SINAD(dB): 84; SNR(dB): 87; SubFamily: Precision ADC (<=10MSPS); DatasheetVersion: SBAS123B; PackageVersion: 4073329/E, 05/2006; PackageReference: DGK8; PackageDescription: 8-Pin Thin Small Outline, Body 3 x 3 mm, Pitch 0.65 mm; Supplier 1: Digi-Key; Supplier Part Number 1: ADS7841EB-ND; Digital Supply(Max)(V): 5.25; Digital Supply(Min)(V): 4.75; Eco-Plan: Green (RoHS & no Sb/Br); Mounting Technology: Surface Mount; Code_JEDEC: MO-187; ComponentLink1Description: Manufacturer URL; ComponentLink1URL: http://www.ti.com/; ComponentLink2Description: Datasheet; ComponentLink2URL: http://www.ti.com/general/docs/lit/getliterature.tsp?genericPartNumber=ADS8321&fileType=pdf; ComponentLink3Description: Package Specification; ComponentLink3URL: http://www.ti.com/litv/pdf/mpds028d
footprint TI-DGK8_N (SOP, 8-Leads, Body 3x3mm, Pitch 0.65mm, IPC Medium Density)
footprint TI-DGK8_L (SOP, 8-Leads, Body 3x3mm, Pitch 0.65mm, IPC High Density)
footprint TI-DGK8_M (SOP, 8-Leads, Body 3x3mm, Pitch 0.65mm, IPC Low Density)
pins: 1 VREF (in) "Reference Input", 2 IN+ (in) "Non Inverting Input", 3 IN- (in) "Inverting Input", 4 GND (power) "Ground", 5 ~{CS}/SHDN (in) "Chip Select when LOW, Shutdown Mode when HIGH.", 6 DOUT (hiz) "The serial output data word is comprised of 16 bits of data. In operation the data is valid on the falling edge of DCLOCK. The second clock pulse after the falling edge of C\S\ enables the serial output. After one null bit, (See Datasheet)", 7 DCLOCK (in) "Data Clock synchronizes the serial data transfer and determines conversion speed.", 8 VCC+ (power) "Power Supply."

## ADS8321EB/250
designator U?
16-Bit, High Speed, MicroPower Sampling ADC, -40 to 85 degC, 8-pin SOP (DGK8), Green (RoHS & no Sb/Br); Manufacturer: Texas Instruments; PartNumber: ADS8321EB/250; # Input Channels: 1; Analog Voltage AV/DD(Max)(V): 5.25; Analog Voltage AV/DD(Min)(V): 4.75; Architecture: SAR; INL(Max)(+/-LSB): 8; Interface: Serial SPI; Resolution(Bits): 16; Sample Rate (max)(SPS): 100k; SFDR(dB): 86; SINAD(dB): 84; SNR(dB): 87; SubFamily: Precision ADC (<=10MSPS); DatasheetVersion: SBAS123B; PackageVersion: 4073329/E, 05/2006; PackageReference: DGK8; PackageDescription: 8-Pin Thin Small Outline, Body 3 x 3 mm, Pitch 0.65 mm; Supplier 1: Digi-Key; Supplier Part Number 1: ADS7841EB/2K5-ND; Digital Supply(Max)(V): 5.25; Digital Supply(Min)(V): 4.75; Eco-Plan: Green (RoHS & no Sb/Br); Mounting Technology: Surface Mount; Code_JEDEC: MO-187; ComponentLink1Description: Manufacturer URL; ComponentLink1URL: http://www.ti.com/; ComponentLink2Description: Datasheet; ComponentLink2URL: http://www.ti.com/general/docs/lit/getliterature.tsp?genericPartNumber=ADS8321&fileType=pdf; ComponentLink3Description: Package Specification; ComponentLink3URL: http://www.ti.com/litv/pdf/mpds028d
footprint TI-DGK8_N (SOP, 8-Leads, Body 3x3mm, Pitch 0.65mm, IPC Medium Density)
footprint TI-DGK8_L (SOP, 8-Leads, Body 3x3mm, Pitch 0.65mm, IPC High Density)
footprint TI-DGK8_M (SOP, 8-Leads, Body 3x3mm, Pitch 0.65mm, IPC Low Density)
pins: 1 VREF (in) "Reference Input", 2 IN+ (in) "Non Inverting Input", 3 IN- (in) "Inverting Input", 4 GND (power) "Ground", 5 ~{CS}/SHDN (in) "Chip Select when LOW, Shutdown Mode when HIGH.", 6 DOUT (hiz) "The serial output data word is comprised of 16 bits of data. In operation the data is valid on the falling edge of DCLOCK. The second clock pulse after the falling edge of C\S\ enables the serial output. After one null bit, (See Datasheet)", 7 DCLOCK (in) "Data Clock synchronizes the serial data transfer and determines conversion speed.", 8 VCC+ (power) "Power Supply."

## ADS8321EB/250G4
designator U?
16-Bit, High Speed, MicroPower Sampling ADC, -40 to 85 degC, 8-pin SOP (DGK8), Green (RoHS & no Sb/Br); Manufacturer: Texas Instruments; PartNumber: ADS8321EB/250G4; # Input Channels: 1; Analog Voltage AV/DD(Max)(V): 5.25; Analog Voltage AV/DD(Min)(V): 4.75; Architecture: SAR; INL(Max)(+/-LSB): 8; Interface: Serial SPI; Resolution(Bits): 16; Sample Rate (max)(SPS): 100k; SFDR(dB): 86; SINAD(dB): 84; SNR(dB): 87; SubFamily: Precision ADC (<=10MSPS); DatasheetVersion: SBAS123B; PackageVersion: 4073329/E, 05/2006; PackageReference: DGK8; PackageDescription: 8-Pin Thin Small Outline, Body 3 x 3 mm, Pitch 0.65 mm; Supplier 1: Digi-Key; Supplier Part Number 1: ADS7841EB/2K5G4-ND; Digital Supply(Max)(V): 5.25; Digital Supply(Min)(V): 4.75; Eco-Plan: Green (RoHS & no Sb/Br); Mounting Technology: Surface Mount; Code_JEDEC: MO-187; ComponentLink1Description: Manufacturer URL; ComponentLink1URL: http://www.ti.com/; ComponentLink2Description: Datasheet; ComponentLink2URL: http://www.ti.com/general/docs/lit/getliterature.tsp?genericPartNumber=ADS8321&fileType=pdf; ComponentLink3Description: Package Specification; ComponentLink3URL: http://www.ti.com/litv/pdf/mpds028d
footprint TI-DGK8_N (SOP, 8-Leads, Body 3x3mm, Pitch 0.65mm, IPC Medium Density)
footprint TI-DGK8_L (SOP, 8-Leads, Body 3x3mm, Pitch 0.65mm, IPC High Density)
footprint TI-DGK8_M (SOP, 8-Leads, Body 3x3mm, Pitch 0.65mm, IPC Low Density)
pins: 1 VREF (in) "Reference Input", 2 IN+ (in) "Non Inverting Input", 3 IN- (in) "Inverting Input", 4 GND (power) "Ground", 5 ~{CS}/SHDN (in) "Chip Select when LOW, Shutdown Mode when HIGH.", 6 DOUT (hiz) "The serial output data word is comprised of 16 bits of data. In operation the data is valid on the falling edge of DCLOCK. The second clock pulse after the falling edge of C\S\ enables the serial output. After one null bit, (See Datasheet)", 7 DCLOCK (in) "Data Clock synchronizes the serial data transfer and determines conversion speed.", 8 VCC+ (power) "Power Supply."

## ADS8322Y/2K
designator U?
Unipolar, 16-Bit, 500 kSPS CMOS ADC, -40 to 85 degC, 32-pin QFP (PBS32), Green (RoHS & no Sb/Br); Manufacturer: Texas Instruments; PartNumber: ADS8322Y/2K; # Input Channels: 1; Analog Voltage AV/DD(Max)(V): 5.25; Analog Voltage AV/DD(Min)(V): 4.75; Architecture: SAR; INL(Max)(+/-LSB): 8; Interface: Parallel CMOS; Resolution(Bits): 16; Sample Rate (max)(SPS): 500k; SFDR(dB): 94; SINAD(dB): 81; SubFamily: Precision ADC (<=10MSPS); DatasheetVersion: SBAS215A; PackageVersion: 4087735/B, 07/2005; PackageReference: PBS32; PackageDescription: 32-Pin Plastic Flat Pack, Body 5 X 5 mm, Pitch 0.5 mm; Supplier 1: Digi-Key; Supplier Part Number 1: ADS7841EBG4-ND; Digital Supply(Max)(V): 5.25; Digital Supply(Min)(V): 4.75; Eco-Plan: Green (RoHS & no Sb/Br); Mounting Technology: Surface Mount; Code_JEDEC: MS-026; ComponentLink1Description: Manufacturer URL; ComponentLink1URL: http://www.ti.com/; ComponentLink2Description: Datasheet; ComponentLink2URL: http://www.ti.com/general/docs/lit/getliterature.tsp?genericPartNumber=ADS8322&fileType=pdf; ComponentLink3Description: Package Specification; ComponentLink3URL: http://www.ti.com/lit/ml/mpqf027a/mpqf027a.pdf
footprint TI-PBS32_N (QFP, 32-Leads, Body 5x5mm, Pitch 0.5mm, IPC Medium Density)
footprint TI-PBS32_L (QFP, 32-Leads, Body 5x5mm, Pitch 0.5mm, IPC High Density)
footprint TI-PBS32_M (QFP, 32-Leads, Body 5x5mm, Pitch 0.5mm, IPC Low Density)
pins: 1 DB15 (hiz) "Data Bit 15 (MSB)", 2 DB14 (hiz) "Data Bit 14", 3 DB13 (hiz) "Data Bit 13", 4 DB12 (hiz) "Data Bit 12", 5 DB11 (hiz) "Data Bit 11", 6 DB10 (hiz) "Data Bit 10", 7 DB9 (hiz) "Data Bit 9", 8 DB8 (hiz) "Data Bit 8", 9 DB7 (hiz) "Data Bit 7", 10 DB6 (hiz) "Data Bit 6", 11 DB5 (hiz) "Data Bit 5", 12 DB4 (hiz) "Data Bit 4", 13 DB3 (hiz) "Data Bit 3", 14 DB2 (hiz) "Data Bit 2", 15 DB1 (hiz) "Data Bit 1", 16 DB0 (hiz) "Data Bit 0 (LSB)", 17 BUSY (out) "High when a conversion is in progress.", 18 VD+ (power) "Digital Power Supply, +5VDC.", 19 DGND (power) "Digital Ground", 20 CLOCK (in) "An external CMOS-compatible clock can be applied to the CLOCK input to synchronize the conversion process to an external source.", 21 ~{CONVST} (in) "Convert Start", 22 ~{RD} (in) "Synchronization pulse for the parallel output.", 23 BYTE (in) "Selects eight most significant bits (low) or eight least significant bits (high). Data valid on pins 9-16.", 24 ~{CS} (in) "Chip Select", 25 IN- (in) "Inverting Input Channel", 26 IN+ (in) "Noninverting Input Channel", 27 AGND (power) "Analog Ground", 28 VA+ (power) "Analog Power Supply, +5VDC.", 29 NC "No connection", 30 NC "No connection", 31 REFIN (in) "Reference Input. When using the internal 2.5V reference, tie this pin directly to REFOUT.", 32 REFOUT (out) "Reference Output. A 0.1uF capacitor should be connected to this pin when the internal reference is used."

## ADS8322Y/2KG4
designator U?
Unipolar, 16-Bit, 500 kSPS CMOS ADC, -40 to 85 degC, 32-pin QFP (PBS32), Green (RoHS & no Sb/Br); Manufacturer: Texas Instruments; PartNumber: ADS8322Y/2KG4; # Input Channels: 1; Analog Voltage AV/DD(Max)(V): 5.25; Analog Voltage AV/DD(Min)(V): 4.75; Architecture: SAR; INL(Max)(+/-LSB): 8; Interface: Parallel CMOS; Resolution(Bits): 16; Sample Rate (max)(SPS): 500k; SFDR(dB): 94; SINAD(dB): 81; SubFamily: Precision ADC (<=10MSPS); DatasheetVersion: SBAS215A; PackageVersion: 4087735/B, 07/2005; PackageReference: PBS32; PackageDescription: 32-Pin Plastic Flat Pack, Body 5 X 5 mm, Pitch 0.5 mm; Supplier 1: Digi-Key; Supplier Part Number 1: ADS7841EG4-ND; Digital Supply(Max)(V): 5.25; Digital Supply(Min)(V): 4.75; Eco-Plan: Green (RoHS & no Sb/Br); Mounting Technology: Surface Mount; Code_JEDEC: MS-026; ComponentLink1Description: Manufacturer URL; ComponentLink1URL: http://www.ti.com/; ComponentLink2Description: Datasheet; ComponentLink2URL: http://www.ti.com/general/docs/lit/getliterature.tsp?genericPartNumber=ADS8322&fileType=pdf; ComponentLink3Description: Package Specification; ComponentLink3URL: http://www.ti.com/lit/ml/mpqf027a/mpqf027a.pdf
footprint TI-PBS32_N (QFP, 32-Leads, Body 5x5mm, Pitch 0.5mm, IPC Medium Density)
footprint TI-PBS32_L (QFP, 32-Leads, Body 5x5mm, Pitch 0.5mm, IPC High Density)
footprint TI-PBS32_M (QFP, 32-Leads, Body 5x5mm, Pitch 0.5mm, IPC Low Density)
pins: 1 DB15 (hiz) "Data Bit 15 (MSB)", 2 DB14 (hiz) "Data Bit 14", 3 DB13 (hiz) "Data Bit 13", 4 DB12 (hiz) "Data Bit 12", 5 DB11 (hiz) "Data Bit 11", 6 DB10 (hiz) "Data Bit 10", 7 DB9 (hiz) "Data Bit 9", 8 DB8 (hiz) "Data Bit 8", 9 DB7 (hiz) "Data Bit 7", 10 DB6 (hiz) "Data Bit 6", 11 DB5 (hiz) "Data Bit 5", 12 DB4 (hiz) "Data Bit 4", 13 DB3 (hiz) "Data Bit 3", 14 DB2 (hiz) "Data Bit 2", 15 DB1 (hiz) "Data Bit 1", 16 DB0 (hiz) "Data Bit 0 (LSB)", 17 BUSY (out) "High when a conversion is in progress.", 18 VD+ (power) "Digital Power Supply, +5VDC.", 19 DGND (power) "Digital Ground", 20 CLOCK (in) "An external CMOS-compatible clock can be applied to the CLOCK input to synchronize the conversion process to an external source.", 21 ~{CONVST} (in) "Convert Start", 22 ~{RD} (in) "Synchronization pulse for the parallel output.", 23 BYTE (in) "Selects eight most significant bits (low) or eight least significant bits (high). Data valid on pins 9-16.", 24 ~{CS} (in) "Chip Select", 25 IN- (in) "Inverting Input Channel", 26 IN+ (in) "Noninverting Input Channel", 27 AGND (power) "Analog Ground", 28 VA+ (power) "Analog Power Supply, +5VDC.", 29 NC "No connection", 30 NC "No connection", 31 REFIN (in) "Reference Input. When using the internal 2.5V reference, tie this pin directly to REFOUT.", 32 REFOUT (out) "Reference Output. A 0.1uF capacitor should be connected to this pin when the internal reference is used."

## ADS8322Y/250
designator U?
Unipolar, 16-Bit, 500 kSPS CMOS ADC, -40 to 85 degC, 32-pin QFP (PBS32), Green (RoHS & no Sb/Br); Manufacturer: Texas Instruments; PartNumber: ADS8322Y/250; # Input Channels: 1; Analog Voltage AV/DD(Max)(V): 5.25; Analog Voltage AV/DD(Min)(V): 4.75; Architecture: SAR; INL(Max)(+/-LSB): 8; Interface: Parallel CMOS; Resolution(Bits): 16; Sample Rate (max)(SPS): 500k; SFDR(dB): 94; SINAD(dB): 81; SubFamily: Precision ADC (<=10MSPS); DatasheetVersion: SBAS215A; PackageVersion: 4087735/B, 07/2005; PackageReference: PBS32; PackageDescription: 32-Pin Plastic Flat Pack, Body 5 X 5 mm, Pitch 0.5 mm; Supplier 1: Digi-Key; Supplier Part Number 1: 296-32824-5-ND; Digital Supply(Max)(V): 5.25; Digital Supply(Min)(V): 4.75; Eco-Plan: Green (RoHS & no Sb/Br); Mounting Technology: Surface Mount; Code_JEDEC: MS-026; ComponentLink1Description: Manufacturer URL; ComponentLink1URL: http://www.ti.com/; ComponentLink2Description: Datasheet; ComponentLink2URL: http://www.ti.com/general/docs/lit/getliterature.tsp?genericPartNumber=ADS8322&fileType=pdf; ComponentLink3Description: Package Specification; ComponentLink3URL: http://www.ti.com/lit/ml/mpqf027a/mpqf027a.pdf
footprint TI-PBS32_N (QFP, 32-Leads, Body 5x5mm, Pitch 0.5mm, IPC Medium Density)
footprint TI-PBS32_L (QFP, 32-Leads, Body 5x5mm, Pitch 0.5mm, IPC High Density)
footprint TI-PBS32_M (QFP, 32-Leads, Body 5x5mm, Pitch 0.5mm, IPC Low Density)
pins: 1 DB15 (hiz) "Data Bit 15 (MSB)", 2 DB14 (hiz) "Data Bit 14", 3 DB13 (hiz) "Data Bit 13", 4 DB12 (hiz) "Data Bit 12", 5 DB11 (hiz) "Data Bit 11", 6 DB10 (hiz) "Data Bit 10", 7 DB9 (hiz) "Data Bit 9", 8 DB8 (hiz) "Data Bit 8", 9 DB7 (hiz) "Data Bit 7", 10 DB6 (hiz) "Data Bit 6", 11 DB5 (hiz) "Data Bit 5", 12 DB4 (hiz) "Data Bit 4", 13 DB3 (hiz) "Data Bit 3", 14 DB2 (hiz) "Data Bit 2", 15 DB1 (hiz) "Data Bit 1", 16 DB0 (hiz) "Data Bit 0 (LSB)", 17 BUSY (out) "High when a conversion is in progress.", 18 VD+ (power) "Digital Power Supply, +5VDC.", 19 DGND (power) "Digital Ground", 20 CLOCK (in) "An external CMOS-compatible clock can be applied to the CLOCK input to synchronize the conversion process to an external source.", 21 ~{CONVST} (in) "Convert Start", 22 ~{RD} (in) "Synchronization pulse for the parallel output.", 23 BYTE (in) "Selects eight most significant bits (low) or eight least significant bits (high). Data valid on pins 9-16.", 24 ~{CS} (in) "Chip Select", 25 IN- (in) "Inverting Input Channel", 26 IN+ (in) "Noninverting Input Channel", 27 AGND (power) "Analog Ground", 28 VA+ (power) "Analog Power Supply, +5VDC.", 29 NC "No connection", 30 NC "No connection", 31 REFIN (in) "Reference Input. When using the internal 2.5V reference, tie this pin directly to REFOUT.", 32 REFOUT (out) "Reference Output. A 0.1uF capacitor should be connected to this pin when the internal reference is used."